# Altium footprint library C0805.PcbLib: 3 footprints
Each footprint in its own frame and in the unit in brackets; x right, y up, seen from the top. Pads: shape width x height; smd on the part's side, far side on the other; paste and mask are expansions set on the pad; w line width, h text height; cw(c..) or ccw(c..) is an arc to the next point about the centre after c.
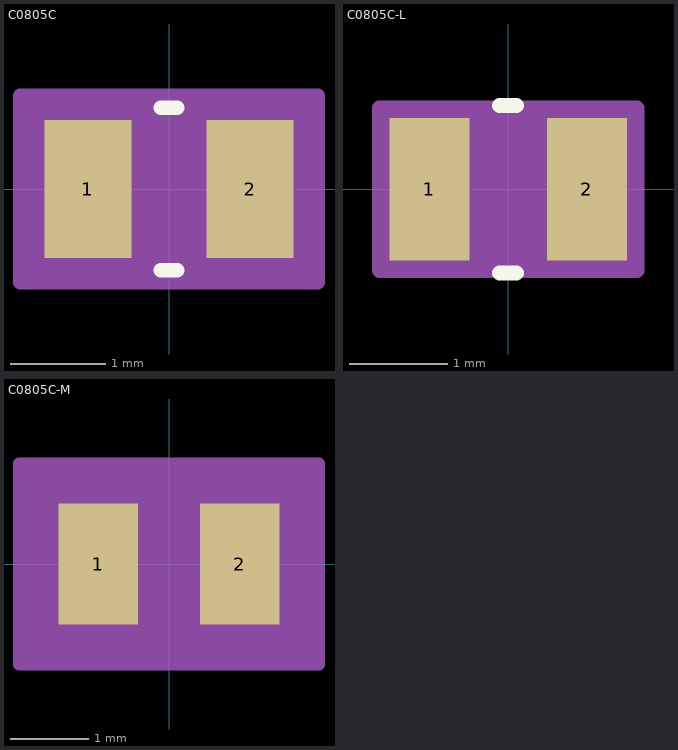
[diagram p0: the footprints below, top view; thin cyan lines are the x and y axes]

## C0805C [mil]
pads (2):
  rect 36x57 smd paste+0 mask+0: 1(-33.5,0) 2(33.5,0)
Top Overlay:
  lines w6: -3.39,-33.5 3.39,-33.5 ; -3.39,33.5 3.39,33.5
Mechanical 13:
  lines w1: -43.5,-28.5 -43.5,28.5 ; -43.5,-28.5 -15.5,-28.5 -15.5,28.5 -43.5,28.5 ; -43.5,-28.5 43.5,-28.5 ; -43.5,-28.5 -43.5,28.5 ; -43.5,28.5 43.5,28.5 ; 43.5,-28.5 15.5,-28.5 15.5,28.5 43.5,28.5 ; 43.5,-28.5 43.5,28.5 ; 43.5,-28.5 43.5,28.5
Mechanical 15:
  region: 61.5,-38.5 -61.5,-38.5 -61.5,38.5 61.5,38.5
  lines w6: -61.5,-38.5 -61.5,38.5 61.5,38.5 61.5,-38.5 -61.5,-38.5
3D body: height 10, standoff 0, extent 0,0 10,10

## C0805C-L [mil]
pads (2):
  rect 32x57 smd paste+0 mask+0: 1(-31.5,0) 2(31.5,0)
Top Overlay:
  lines w6: -3.39,-33.5 3.39,-33.5 ; -3.39,33.5 3.39,33.5
Mechanical 13:
  lines w1: -43.5,-28.5 -43.5,28.5 ; -43.5,-28.5 -15.5,-28.5 -15.5,28.5 -43.5,28.5 ; -43.5,-28.5 43.5,-28.5 ; -43.5,-28.5 -43.5,28.5 ; -43.5,28.5 43.5,28.5 ; 43.5,-28.5 15.5,-28.5 15.5,28.5 43.5,28.5 ; 43.5,-28.5 43.5,28.5 ; 43.5,-28.5 43.5,28.5
Mechanical 15:
  region: 51.5,-32.5 -51.5,-32.5 -51.5,32.5 51.5,32.5
  lines w6: -51.5,-32.5 -51.5,32.5 51.5,32.5 51.5,-32.5 -51.5,-32.5
3D body: height 10, standoff 0, extent 0,0 10,10

## C0805C-M [mil]
pads (2):
  rect 40x61 smd paste+0 mask+0: 1(-35.5,0) 2(35.5,0)
Mechanical 13:
  lines w1: -43.5,-28.5 -43.5,28.5 ; -43.5,-28.5 -15.5,-28.5 -15.5,28.5 -43.5,28.5 ; -43.5,-28.5 43.5,-28.5 ; -43.5,-28.5 -43.5,28.5 ; -43.5,28.5 43.5,28.5 ; 43.5,-28.5 15.5,-28.5 15.5,28.5 43.5,28.5 ; 43.5,-28.5 43.5,28.5 ; 43.5,-28.5 43.5,28.5
Mechanical 15:
  region: 75.5,-50.5 -75.5,-50.5 -75.5,50.5 75.5,50.5
  lines w6: -75.5,-50.5 -75.5,50.5 75.5,50.5 75.5,-50.5 -75.5,-50.5
3D body: height 10, standoff 0, extent 0,0 10,10